# EAGLE library part REG_PAM2306D (library DSP_PID)
DUAL 1-A HIGH-EFFICIENCY PWM STEP-DOWN DC-DC CONVERTER
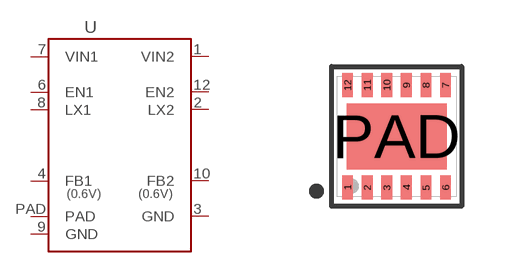
[diagram p7: symbol with the pads of WDFN-12; footprint WDFN-12]

Designator prefix U

## REG_PAM2306D (MFG: DIODES INC; MPN: PAM2306DYPAA; PRICE: 0.73; VENDOR: DIGIKEY; VPN: PAM2306DYPAADICT-ND)  [WDFN-12]
1  VIN2  pas
2  LX2  pas
3  GND  pas
4  FB1  pas
6  EN1  pas
7  VIN1  pas
8  LX1  pas
9  GND  pas
10  FB2  pas
12  EN2  pas
PAD  PAD  pas

## Footprint WDFN-12 (pad centres in mm)
3X3 MM 0.45 MM PITCH 12 PIN DFN W/PAD
smd 0.27 x 0.6: 1 -1.225,-1.28; 2 -0.735,-1.28; 3 -0.245,-1.28; 4 0.245,-1.28; 5 0.735,-1.28; 6 1.225,-1.28; 7 1.225,1.28; 8 0.735,1.28; 9 0.245,1.28; 10 -0.245,1.28; 11 -0.735,1.28; 12 -1.225,1.28
smd 2.5 x 1.65: PAD 0,0